# EAGLE library part QUECTEL_UG95 (library GSM)
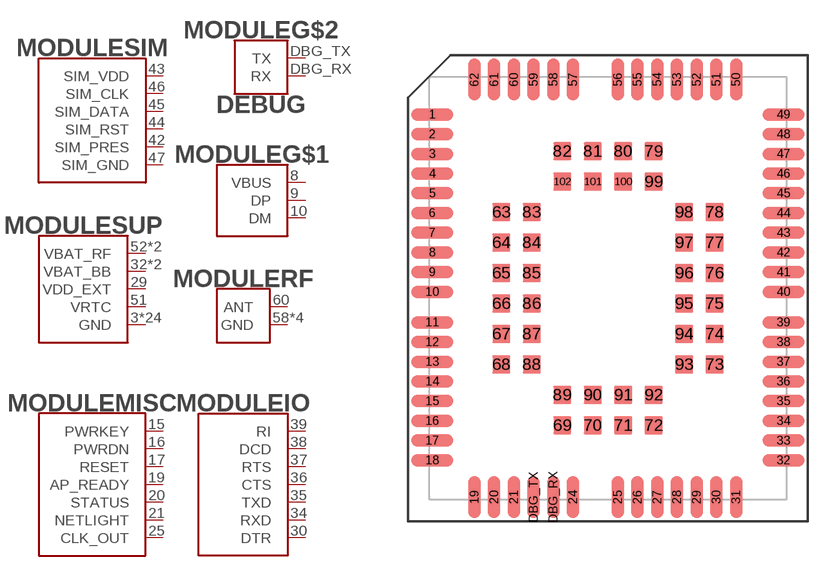
[diagram p0: symbol with the pads of QUECTEL_UG95; footprint QUECTEL_UG95]

Designator prefix MODULE; gates IO=UG95_IO MISC=UG95_MISC SUP=UG95_PWR RF=UG95_RF SIM=UG95_SIM G$1=UG95_USB G$2=M95_DBG

## QUECTEL_UG95  [QUECTEL_UG95]
3  SUP:GND
8  G$1:VBUS
9  G$1:DP
10  G$1:DM
15  MISC:PWRKEY
16  MISC:PWRDN
17  MISC:RESET
19  MISC:AP_READY
20  MISC:STATUS
21  MISC:NETLIGHT
25  MISC:CLK_OUT
29  SUP:VDD_EXT
30  IO:DTR
31  SUP:GND
32  SUP:VBAT_BB
33  SUP:VBAT_BB
34  IO:RXD
35  IO:TXD
36  IO:CTS
37  IO:RTS
38  IO:DCD
39  IO:RI
42  SIM:SIM_PRES
43  SIM:SIM_VDD
44  SIM:SIM_RST
45  SIM:SIM_DATA
46  SIM:SIM_CLK
47  SIM:SIM_GND
48  SUP:GND
50  SUP:GND
51  SUP:VRTC
52  SUP:VBAT_RF
53  SUP:VBAT_RF
54  SUP:GND
55  SUP:GND
58  RF:GND
59  RF:GND
60  RF:ANT
61  RF:GND
62  RF:GND
67  SUP:GND
68  SUP:GND
69  SUP:GND
70  SUP:GND
71  SUP:GND
72  SUP:GND
73  SUP:GND
74  SUP:GND
79  SUP:GND
80  SUP:GND
81  SUP:GND
82  SUP:GND
89  SUP:GND
90  SUP:GND
91  SUP:GND
100  SUP:GND
101  SUP:GND
102  SUP:GND
DBG_RX  G$2:RX
DBG_TX  G$2:TX

## Footprint QUECTEL_UG95 (pad centres in mm)
smd 2.35 x 0.7: 1 -9.8,9.7; 2 -9.8,8.6; 3 -9.8,7.5; 4 -9.8,6.4; 5 -9.8,5.3; 6 -9.8,4.2; 7 -9.8,3.1; 8 -9.8,2; 9 -9.8,0.9; 10 -9.8,-0.2; 11 -9.8,-1.9; 12 -9.8,-3; 13 -9.8,-4.1; 14 -9.8,-5.2; 15 -9.8,-6.3; 16 -9.8,-7.4; 17 -9.8,-8.5; 18 -9.8,-9.6; 32 9.8,-9.6; 33 9.8,-8.5; 34 9.8,-7.4; 35 9.8,-6.3; 36 9.8,-5.2; 37 9.8,-4.1; 38 9.8,-3; 39 9.8,-1.9; 40 9.8,-0.2; 41 9.8,0.9; 42 9.8,2; 43 9.8,3.1; 44 9.8,4.2; 45 9.8,5.3; 46 9.8,6.4; 47 9.8,7.5; 48 9.8,8.6; 49 9.8,9.7
smd 0.7 x 2.35: 19 -7.45,-11.65; 20 -6.35,-11.65; 21 -5.25,-11.65; 24 -1.95,-11.65; 25 0.55,-11.65; 26 1.65,-11.65; 27 2.75,-11.65; 28 3.85,-11.65; 29 4.95,-11.65; 30 6.05,-11.65; 31 7.15,-11.65; 50 7.15,11.65; 51 6.05,11.65; 52 4.95,11.65; 53 3.85,11.65; 54 2.75,11.65; 55 1.65,11.65; 56 0.55,11.65; 57 -1.95,11.65; 58 -3.05,11.65; 59 -4.15,11.65; 60 -5.25,11.65; 61 -6.35,11.65; 62 -7.45,11.65; DBG_RX -3.05,-11.65; DBG_TX -4.15,-11.65
smd 1 x 1: 63 -5.95,4.25; 64 -5.95,2.55; 65 -5.95,0.85; 66 -5.95,-0.85; 67 -5.95,-2.55; 68 -5.95,-4.25; 69 -2.55,-7.65; 70 -0.85,-7.65; 71 0.85,-7.65; 72 2.55,-7.65; 73 5.95,-4.25; 74 5.95,-2.55; 75 5.95,-0.85; 76 5.95,0.85; 77 5.95,2.55; 78 5.95,4.25; 79 2.55,7.65; 80 0.85,7.65; 81 -0.85,7.65; 82 -2.55,7.65; 83 -4.25,4.25; 84 -4.25,2.55; 85 -4.25,0.85; 86 -4.25,-0.85; 87 -4.25,-2.55; 88 -4.25,-4.25; 89 -2.55,-5.95; 90 -0.85,-5.95; 91 0.85,-5.95; 92 2.55,-5.95; 93 4.25,-4.25; 94 4.25,-2.55; 95 4.25,-0.85; 96 4.25,0.85; 97 4.25,2.55; 98 4.25,4.25; 99 2.55,5.95; 100 0.85,5.95; 101 -0.85,5.95; 102 -2.55,5.95